# Altium footprint library 3557-2.PcbLib: 2 footprints
Each footprint in its own frame and in the unit in brackets; x right, y up, seen from the top. Pads: shape width x height; smd on the part's side, far side on the other; paste and mask are expansions set on the pad; w line width, h text height; cw(c..) or ccw(c..) is an arc to the next point about the centre after c.
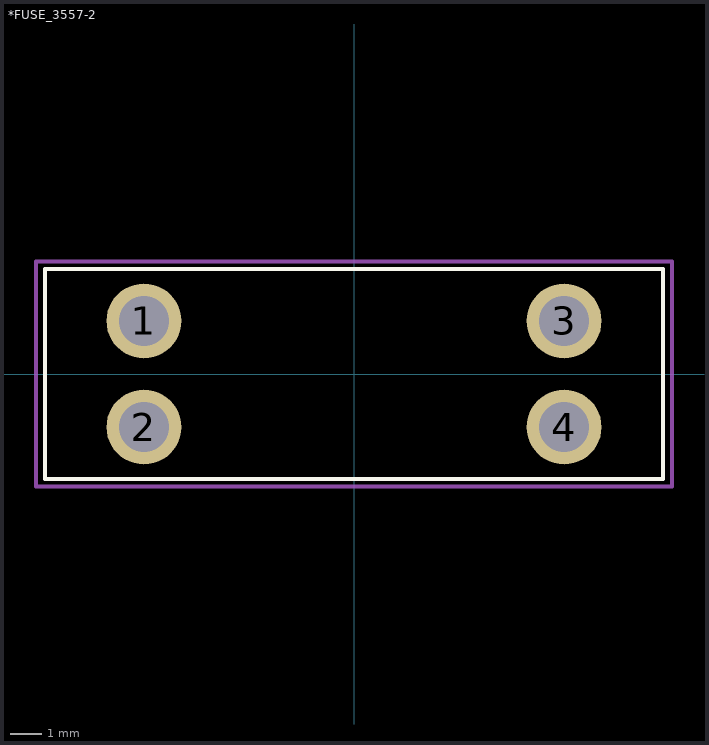
[diagram p0: the footprints below, top view; thin cyan lines are the x and y axes]

## *FUSE_3557-2 [mm]
pads (4):
  round 2.4 hole 1.6: 1(-6.735,1.7) 2(-6.735,-1.7) 3(6.735,1.7) 4(6.735,-1.7)
Top Overlay:
  lines w0.127: -9.905,-3.365 9.905,-3.365 9.905,3.365 -9.905,3.365 -9.905,-3.365
Mechanical 16:
  lines w0.127: -10.2,-3.6 -10.2,3.6 10.2,3.6 10.2,-3.6 -10.2,-3.6

## PCBComponent_1 [mm]